# Altium footprint library Connectors.PcbLib: 67 footprints (part 4 of 5)
Each footprint in its own frame and in the unit in brackets; x right, y up, seen from the top. Pads: shape width x height; smd on the part's side, far side on the other; paste and mask are expansions set on the pad; w line width, h text height; cw(c..) or ccw(c..) is an arc to the next point about the centre after c.
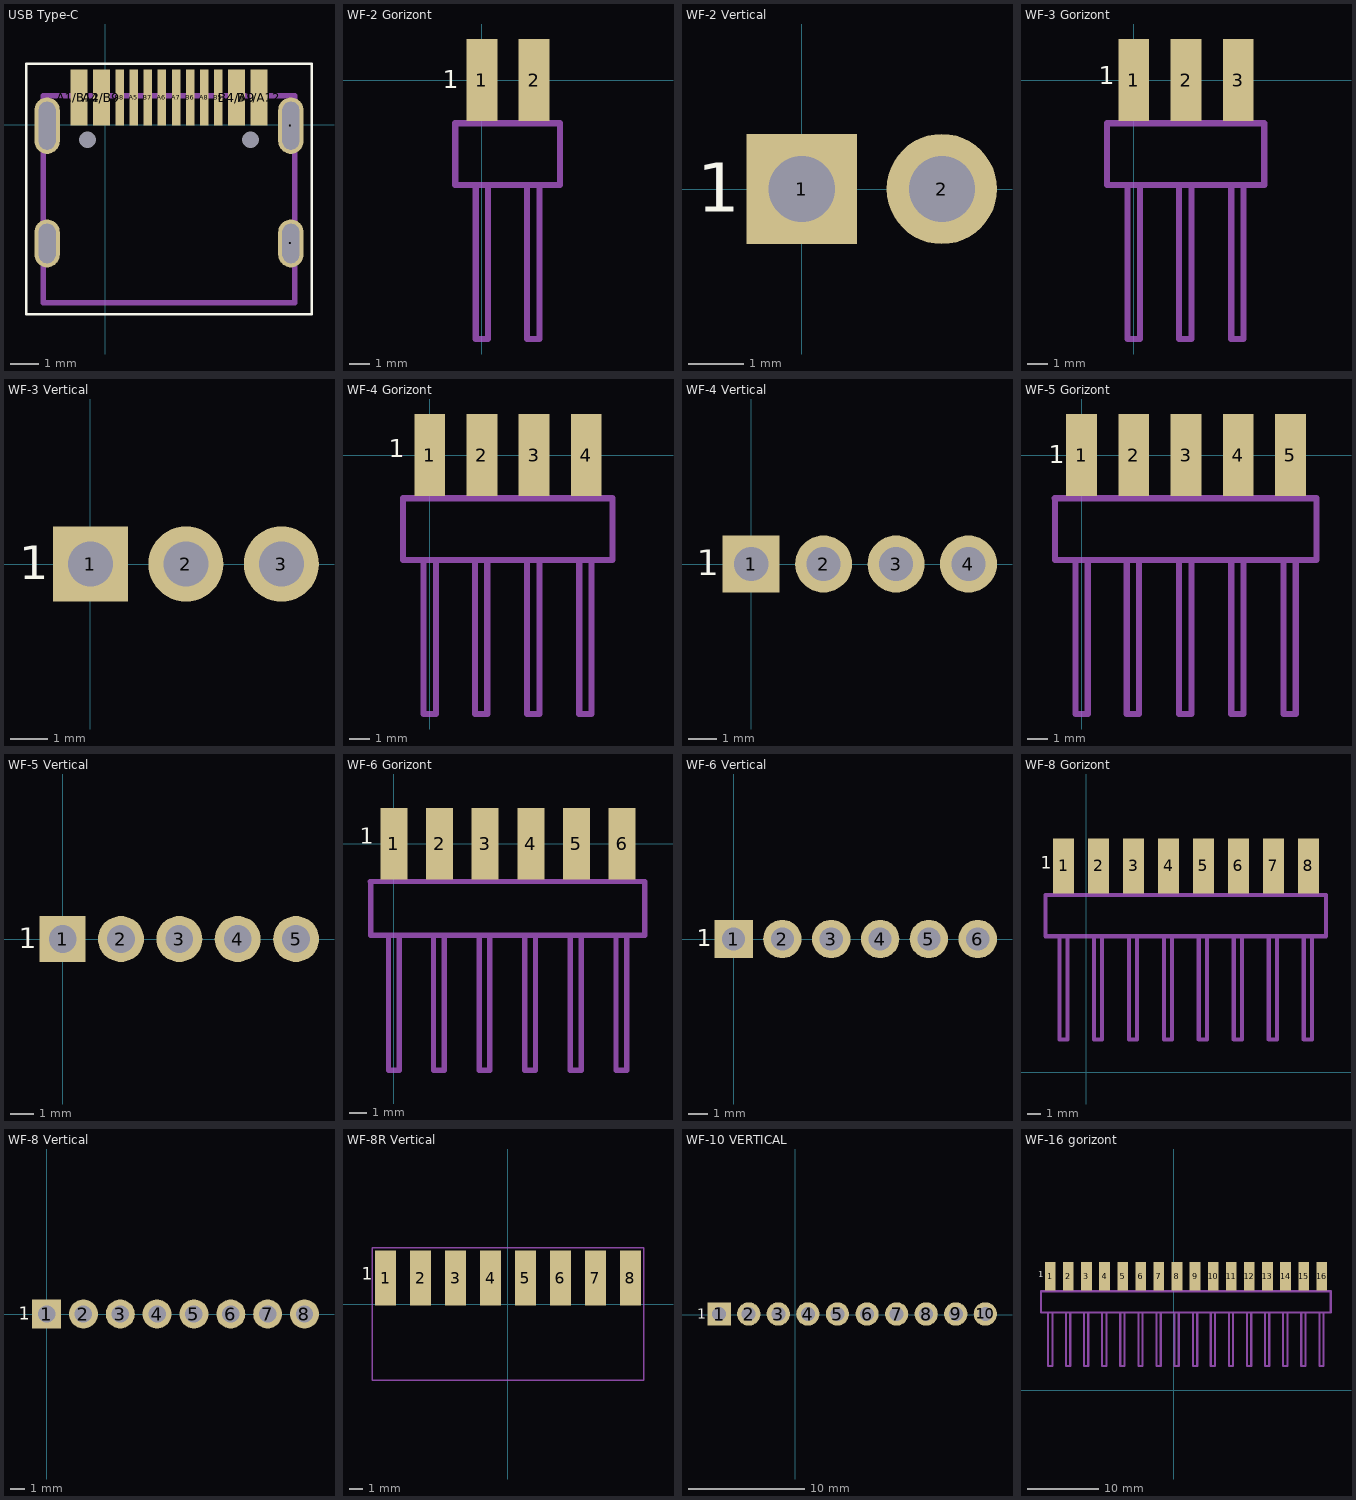
[diagram p3: the footprints below, top view; thin cyan lines are the x and y axes]

## USB Type-C [mm] "TYPE-C-31-M-12"
pads (18):
  round 0 hole 0.6 mask+0.102: 7(-0.635,-0.53) .(5.165,-0.53)
  oval 0.9x1.7 hole 0.6 slot 1.4 at 90 deg mask+0.102: .(6.59,-4.21) ""(-2.06,-4.21)
  oval 0.9x2 hole 0.6 slot 1.7 at 90 deg mask+0.102: .(6.59,-0.03) ""(-2.06,-0.03)
  rect 0.6x2 smd mask+0.102: A1/B12(-0.935,0.97) A4/B9(-0.135,0.97) B1/A12(5.465,0.97) B4/A9(4.665,0.97)
  rect 0.3x2 smd mask+0.102: A5(1.015,0.97) A6(2.015,0.97) A7(2.515,0.97) A8(3.515,0.97) B5(4.015,0.97) B6(3.015,0.97) B7(1.515,0.97) B8(0.515,0.97)
Top Overlay:
  lines w0.1: -2.805,-6.725 7.33,-6.725 7.33,2.17 -2.805,2.17 -2.805,-6.725
Mechanical 15:
  lines w0.1: -2.205,-6.32 -2.205,-6.31
  lines w0.2: -2.205,-6.32 6.735,-6.32 6.735,1.03 -2.205,1.03 -2.205,-6.31
3D body: height 3.26, standoff 0, extent -2.215,-6.32 6.735,1.03

## WF-2 Gorizont [mm]
pads (2):
  rect 1.5x4 smd: 1(0,0) 2(2.54,0)
Top Overlay:
  text "1" at -1.9,-0.7 h1.52
Mechanical 15:
  lines w0.3: -1.308,-2.1 3.8,-2.1 3.8,-5.1 -1.3,-5.1 -1.3,-2.1 ; -0.3,-5.1 -0.3,-12.6 0.3,-12.6 0.3,-5.1 ; -0.3,-2.1 -0.3,1.3 0.3,1.3 0.3,-2.1 ; 2.2,-5.1 2.2,-12.6 2.8,-12.6 2.8,-5.1 ; 2.2,-2.1 2.2,1.3 2.8,1.3 2.8,-2.1
3D body: height -1.7, standoff -2.7, extent -0.4,-12.6 2.8,-4.8
3D body: height 0.6, standoff 0, extent 2.2,-12.6 2.8,1.3
3D body: height 0.6, standoff 0, extent -0.3,-12.6 0.3,1.3
3D body: height 3.2, standoff -2.7, extent -1.3,-5.1 3.8,-2.1

## WF-2 Vertical [mm]
pads (2):
  rect 2x2 hole 1.2: 1(0,0)
  round 2 hole 1.2: 2(2.54,0)
Top Overlay:
  text "1" at -1.9,-0.7 h1.52
3D body: height 3, standoff 0, extent -1.35,-2.9 3.75,2.9
3D body: height 10.4, standoff -3.4, extent -0.3,-0.3 0.3,0.3
3D body: height 11.5, standoff 0, extent -1.4,-2.9 3.8,-2.1
3D body: height 10.4, standoff -3.4, extent 2.2,-0.3 2.8,0.3

## WF-3 Gorizont [mm]
pads (3):
  rect 1.5x4 smd: 1(0,0) 2(2.54,0) 3(5.08,0)
Top Overlay:
  text "1" at -1.7,-0.5 h1.52
Mechanical 15:
  lines w0.3: -1.308,-2.1 6.35,-2.1 6.35,-5.1 -1.3,-5.1 -1.3,-2.1 ; -0.3,-5.1 -0.3,-12.6 0.3,-12.6 0.3,-5.1 ; -0.3,-2.1 -0.3,1.3 0.3,1.3 0.3,-2.1 ; 2.2,-5.1 2.2,-12.6 2.8,-12.6 2.8,-5.1 ; 2.2,-2.1 2.2,1.3 2.8,1.3 2.8,-2.1 ; 4.74,-5.1 4.74,-12.6 5.34,-12.6 5.34,-5.1 ; 4.74,-2.1 4.74,1.3 5.34,1.3 5.34,-2.1
3D body: height -1.7, standoff -2.7, extent -0.4,-12.6 5.4,-4.8
3D body: height 0.6, standoff 0, extent 2.2,-12.6 2.8,1.3
3D body: height 0.6, standoff 0, extent -0.3,-12.6 0.3,1.3
3D body: height 3.2, standoff -2.7, extent -1.3,-5.1 6.35,-2.1
3D body: height 0.6, standoff 0, extent 4.78,-12.63 5.38,1.27

## WF-3 Vertical [mm]
pads (3):
  rect 2x2 hole 1.2: 1(0,0)
  round 2 hole 1.2: 2(2.54,0) 3(5.08,0)
Top Overlay:
  text "1" at -1.9,-0.7 h1.52
3D body: height 10.4, standoff -3.4, extent 2.2,-0.3 2.8,0.3
3D body: height 11.5, standoff 0, extent -1.27,-2.9 6.35,-2.1
3D body: height 10.4, standoff -3.4, extent -0.3,-0.3 0.3,0.3
3D body: height 3, standoff 0, extent -1.27,-2.9 6.35,2.9
3D body: height 10.4, standoff -3.4, extent 4.78,-0.3 5.38,0.3

## WF-4 Gorizont [mm]
pads (4):
  rect 1.5x4 smd: 1(0,0) 2(2.54,0) 3(5.08,0) 4(7.62,0)
Top Overlay:
  text "1" at -2,-0.4 h1.52
Mechanical 15:
  lines w0.3: -1.308,-2.1 8.89,-2.1 8.89,-5.1 -1.3,-5.1 -1.3,-2.1 ; -0.3,-5.1 -0.3,-12.6 0.3,-12.6 0.3,-5.1 ; -0.3,-2.1 -0.3,1.3 0.3,1.3 0.3,-2.1 ; 2.2,-5.1 2.2,-12.6 2.8,-12.6 2.8,-5.1 ; 2.2,-2.1 2.2,1.3 2.8,1.3 2.8,-2.1 ; 4.74,-5.1 4.74,-12.6 5.34,-12.6 5.34,-5.1 ; 4.74,-2.1 4.74,1.3 5.34,1.3 5.34,-2.1 ; 7.28,-5.1 7.28,-12.6 7.88,-12.6 7.88,-5.1 ; 7.28,-2.1 7.28,1.3 7.88,1.3 7.88,-2.1
3D body: height 0.6, standoff 0, extent 7.28,-12.6 7.88,1.3
3D body: height 0.6, standoff 0, extent 4.74,-12.6 5.34,1.3
3D body: height -1.7, standoff -2.7, extent -0.4,-12.6 7.9,-4.8
3D body: height 0.6, standoff 0, extent 2.2,-12.6 2.8,1.3
3D body: height 0.6, standoff 0, extent -0.3,-12.6 0.3,1.3
3D body: height 3.2, standoff -2.7, extent -1.3,-5.1 8.89,-2.1

## WF-4 Vertical [mm]
pads (4):
  rect 2x2 hole 1.2: 1(0,0)
  round 2 hole 1.2: 2(2.54,0) 3(5.08,0) 4(7.62,0)
Top Overlay:
  text "1" at -1.9,-0.7 h1.52
3D body: height 10.4, standoff -3.4, extent 2.2,-0.3 2.8,0.3
3D body: height 11.5, standoff 0, extent -1.27,-2.9 8.89,-2.1
3D body: height 10.4, standoff -3.4, extent -0.3,-0.3 0.3,0.3
3D body: height 3, standoff 0, extent -1.27,-2.9 8.89,2.9
3D body: height 10.4, standoff -3.4, extent 4.78,-0.3 5.38,0.3
3D body: height 10.4, standoff -3.4, extent 7.32,-0.3 7.92,0.3

## WF-5 Gorizont [mm]
pads (5):
  rect 1.5x4 smd: 1(0,0) 2(2.54,0) 3(5.08,0) 4(7.62,0) 5(10.16,0)
Top Overlay:
  text "1" at -1.6,-0.7 h1.52
Mechanical 15:
  lines w0.3: -1.308,-2.1 11.43,-2.1 11.43,-5.1 -1.3,-5.1 -1.3,-2.1 ; -0.3,-5.1 -0.3,-12.6 0.3,-12.6 0.3,-5.1 ; -0.3,-2.1 -0.3,1.3 0.3,1.3 0.3,-2.1 ; 2.2,-5.1 2.2,-12.6 2.8,-12.6 2.8,-5.1 ; 2.2,-2.1 2.2,1.3 2.8,1.3 2.8,-2.1 ; 4.74,-5.1 4.74,-12.6 5.34,-12.6 5.34,-5.1 ; 4.74,-2.1 4.74,1.3 5.34,1.3 5.34,-2.1 ; 7.28,-5.1 7.28,-12.6 7.88,-12.6 7.88,-5.1 ; 7.28,-2.1 7.28,1.3 7.88,1.3 7.88,-2.1 ; 9.82,-5.1 9.82,-12.6 10.42,-12.6 10.42,-5.1 ; 9.82,-2.1 9.82,1.3 10.42,1.3 10.42,-2.1
3D body: height 0.6, standoff 0, extent 9.82,-12.6 10.42,1.3
3D body: height 0.6, standoff 0, extent 7.28,-12.6 7.88,1.3
3D body: height 0.6, standoff 0, extent 4.74,-12.6 5.34,1.3
3D body: height -1.7, standoff -2.7, extent -0.4,-12.6 10.4,-4.8
3D body: height 0.6, standoff 0, extent 2.2,-12.6 2.8,1.3
3D body: height 0.6, standoff 0, extent -0.3,-12.6 0.3,1.3
3D body: height 3.2, standoff -2.7, extent -1.3,-5.1 11.43,-2.1

## WF-5 Vertical [mm]
pads (5):
  rect 2x2 hole 1.2: 1(0,0)
  round 2 hole 1.2: 2(2.54,0) 3(5.08,0) 4(7.62,0) 5(10.16,0)
Top Overlay:
  text "1" at -1.9,-0.7 h1.52
3D body: height 10.4, standoff -3.4, extent 9.86,-0.3 10.46,0.3
3D body: height 10.4, standoff -3.4, extent 7.32,-0.3 7.92,0.3
3D body: height 10.4, standoff -3.4, extent 4.78,-0.6 5.38,0
3D body: height 3, standoff 0, extent -1.27,-2.9 11.43,2.9
3D body: height 10.4, standoff -3.4, extent -0.3,-0.3 0.3,0.3
3D body: height 11.5, standoff 0, extent -1.27,-2.9 11.43,-2.1
3D body: height 10.4, standoff -3.4, extent 2.2,-0.3 2.8,0.3

## WF-6 Gorizont [mm]
pads (6):
  rect 1.5x4 smd: 1(0,0) 2(2.54,0) 3(5.08,0) 4(7.62,0) 5(10.16,0) 6(12.7,0)
Top Overlay:
  text "1" at -1.9,-0.3 h1.52
Mechanical 15:
  lines w0.3: -1.308,-2.1 13.97,-2.1 13.97,-5.1 -1.3,-5.1 -1.3,-2.1 ; -0.3,-5.1 -0.3,-12.6 0.3,-12.6 0.3,-5.1 ; -0.3,-2.1 -0.3,1.3 0.3,1.3 0.3,-2.1 ; 2.2,-5.1 2.2,-12.6 2.8,-12.6 2.8,-5.1 ; 2.2,-2.1 2.2,1.3 2.8,1.3 2.8,-2.1 ; 4.74,-5.1 4.74,-12.6 5.34,-12.6 5.34,-5.1 ; 4.74,-2.1 4.74,1.3 5.34,1.3 5.34,-2.1 ; 7.28,-5.1 7.28,-12.6 7.88,-12.6 7.88,-5.1 ; 7.28,-2.1 7.28,1.3 7.88,1.3 7.88,-2.1 ; 9.82,-5.1 9.82,-12.6 10.42,-12.6 10.42,-5.1 ; 9.82,-2.1 9.82,1.3 10.42,1.3 10.42,-2.1 ; 12.36,-5.1 12.36,-12.6 12.96,-12.6 12.96,-5.1 ; 12.36,-2.1 12.36,1.3 12.96,1.3 12.96,-2.1
3D body: height 3.2, standoff -2.7, extent -1.3,-5.1 13.97,-2.1
3D body: height 0.6, standoff 0, extent -0.3,-12.6 0.3,1.3
3D body: height 0.6, standoff 0, extent 2.2,-12.6 2.8,1.3
3D body: height -1.7, standoff -2.7, extent -0.4,-12.6 13,-4.8
3D body: height 0.6, standoff 0, extent 4.74,-12.6 5.34,1.3
3D body: height 0.6, standoff 0, extent 7.28,-12.6 7.88,1.3
3D body: height 0.6, standoff 0, extent 9.82,-12.6 10.42,1.3
3D body: height 0.6, standoff 0, extent 12.36,-12.6 12.96,1.3

## WF-6 Vertical [mm]
pads (6):
  rect 2x2 hole 1.2: 1(0,0)
  round 2 hole 1.2: 2(2.54,0) 3(5.08,0) 4(7.62,0) 5(10.16,0) 6(12.7,0)
Top Overlay:
  text "1" at -1.9,-0.7 h1.52
3D body: height 10.4, standoff -3.4, extent 12.4,-0.3 13,0.3
3D body: height 10.4, standoff -3.4, extent 9.86,-0.3 10.46,0.3
3D body: height 10.4, standoff -3.4, extent 7.32,-0.3 7.92,0.3
3D body: height 10.4, standoff -3.4, extent 4.78,-0.3 5.38,0.3
3D body: height 10.4, standoff -3.4, extent 2.2,-0.3 2.8,0.3
3D body: height 11.5, standoff 0, extent -1.27,-2.9 13.97,-2.1
3D body: height 10.4, standoff -3.4, extent -0.3,-0.3 0.3,0.3
3D body: height 3, standoff 0, extent -1.27,-2.9 13.97,2.9

## WF-8 Gorizont [mm]
pads (8):
  rect 1.5x4 smd: 1(-1.66,14.96) 2(0.88,14.96) 3(3.42,14.96) 4(5.96,14.96) 5(8.5,14.96) 6(11.04,14.96) 7(13.58,14.96) 8(16.12,14.96)
Top Overlay:
  text "1" at -3.31,14.48 h1.52
Mechanical 15:
  lines w0.3: -2.968,12.86 17.39,12.86 17.39,9.86 -2.96,9.86 -2.96,12.86 ; -1.96,9.86 -1.96,2.36 -1.36,2.36 -1.36,9.86 ; -1.96,12.86 -1.96,16.26 -1.36,16.26 -1.36,12.86 ; 0.54,9.86 0.54,2.36 1.14,2.36 1.14,9.86 ; 0.54,12.86 0.54,16.26 1.14,16.26 1.14,12.86 ; 3.08,9.86 3.08,2.36 3.68,2.36 3.68,9.86 ; 3.08,12.86 3.08,16.26 3.68,16.26 3.68,12.86 ; 5.62,9.86 5.62,2.36 6.22,2.36 6.22,9.86 ; 5.62,12.86 5.62,16.26 6.22,16.26 6.22,12.86 ; 8.16,9.86 8.16,2.36 8.76,2.36 8.76,9.86 ; 8.16,12.86 8.16,16.26 8.76,16.26 8.76,12.86 ; 10.7,9.86 10.7,2.36 11.3,2.36 11.3,9.86 ; 10.7,12.86 10.7,16.26 11.3,16.26 11.3,12.86 ; 13.24,9.86 13.24,2.36 13.84,2.36 13.84,9.86 ; 13.24,12.86 13.24,16.26 13.84,16.26 13.84,12.86 ; 15.78,9.86 15.78,2.36 16.38,2.36 16.38,9.86 ; 15.79,12.86 15.79,16.26 16.39,16.26 16.39,12.86
3D body: height 0.6, standoff 0, extent 15.78,2.36 16.38,16.26
3D body: height 0.6, standoff 0, extent 10.7,2.36 11.3,16.26
3D body: height 0.6, standoff 0, extent 8.16,2.36 8.76,16.26
3D body: height 0.6, standoff 0, extent 5.62,2.36 6.22,16.26
3D body: height 0.6, standoff 0, extent 3.08,2.36 3.68,16.26
3D body: height -1.7, standoff -2.7, extent -2.06,2.36 16.4,10.16
3D body: height 0.6, standoff 0, extent 0.54,2.36 1.14,16.26
3D body: height 0.6, standoff 0, extent -1.96,2.36 -1.36,16.26
3D body: height 3.2, standoff -2.7, extent -2.96,9.86 17.39,12.86
3D body: height 0.6, standoff 0, extent 13.24,2.36 13.84,16.26

## WF-8 Vertical [mm]
pads (8):
  rect 2x2 hole 1.2: 1(0,0)
  round 2 hole 1.2: 2(2.54,0) 3(5.08,0) 4(7.62,0) 5(10.16,0) 6(12.7,0) 7(15.24,0) 8(17.78,0)
Top Overlay:
  text "1" at -1.9,-0.7 h1.52
3D body: height 10.4, standoff -3.4, extent 17.48,-0.3 18.08,0.3
3D body: height 10.4, standoff -3.4, extent 14.94,-0.3 15.54,0.3
3D body: height 10.4, standoff -3.4, extent 12.4,-0.3 13,0.3
3D body: height 10.4, standoff -3.4, extent 9.86,-0.3 10.46,0.3
3D body: height 10.4, standoff -3.4, extent 7.32,-0.3 7.92,0.3
3D body: height 10.4, standoff -3.4, extent 4.78,-0.3 5.38,0.3
3D body: height 10.4, standoff -3.4, extent 2.2,-0.3 2.8,0.3
3D body: height 11.5, standoff 0, extent -1.27,-2.9 19.05,-2.1
3D body: height 10.4, standoff -3.4, extent -0.3,-0.3 0.3,0.3
3D body: height 3, standoff 0, extent -1.27,-2.9 19.05,2.9

## WF-8R Vertical [mm]
pads (8):
  rect 1.5x4 smd: 1(-8.878,1.884) 2(-6.338,1.884) 3(-3.798,1.884) 4(-1.258,1.884) 5(1.282,1.884) 6(3.823,1.884) 7(6.362,1.884) 8(8.902,1.884)
Top Overlay:
  text "1" at -10.61,1.46 h1.52
Mechanical 15:
  lines w0.1: -9.83,-5.52 9.86,-5.52 9.86,4.08 -9.83,4.08 -9.83,-5.52

## WF-10 VERTICAL [mm]
pads (10):
  rect 2x2 hole 1.2: 1(-6.55,0.07)
  round 2 hole 1.2: 2(-4.01,0.07) 3(-1.47,0.07) 4(1.07,0.07) 5(3.61,0.07) 6(6.15,0.07) 7(8.69,0.07) 8(11.23,0.07) 9(13.771,0.07) 10(16.31,0.07)
Top Overlay:
  text "1" at -8.45,-0.63 h1.52
3D body: height 3, standoff 0, extent -7.82,-2.83 17.58,2.97
3D body: height 10.4, standoff -3.4, extent -6.85,-0.23 -6.25,0.37
3D body: height 11.5, standoff 0, extent -7.82,-2.83 17.58,-2.03
3D body: height 10.4, standoff -3.4, extent -4.35,-0.23 -3.75,0.37
3D body: height 10.4, standoff -3.4, extent -1.77,-0.23 -1.17,0.37
3D body: height 10.4, standoff -3.4, extent 0.77,-0.23 1.37,0.37
3D body: height 10.4, standoff -3.4, extent 3.31,-0.23 3.91,0.37
3D body: height 10.4, standoff -3.4, extent 5.85,-0.23 6.45,0.37
3D body: height 10.4, standoff -3.4, extent 8.39,-0.23 8.99,0.37
3D body: height 10.4, standoff -3.4, extent 10.93,-0.23 11.53,0.37

## WF-16 gorizont [mm]
pads (16):
  rect 1.5x4 smd: 1(-17.364,16.023) 2(-14.824,16.023) 3(-12.284,16.023) 4(-9.744,16.023) 5(-7.204,16.023) 6(-4.664,16.023) 7(-2.124,16.023) 8(0.416,16.023) 9(2.956,16.023) 10(5.496,16.023) 11(8.036,16.023) 12(10.576,16.023) 13(13.116,16.023) 14(15.656,16.023) 15(18.196,16.023) 16(20.736,16.023)
Top Overlay:
  text "1" at -19.014,15.543 h1.52
Mechanical 15:
  lines w0.3: -18.672,13.923 1.686,13.923 ; -18.664,13.923 -18.664,10.923 1.686,10.923 ; -17.664,10.923 -17.664,3.423 -17.064,3.423 -17.064,10.923 ; -17.664,13.923 -17.664,17.323 -17.064,17.323 -17.064,13.923 ; -15.164,10.923 -15.164,3.423 -14.564,3.423 -14.564,10.923 ; -15.164,13.923 -15.164,17.323 -14.564,17.323 -14.564,13.923 ; -12.624,10.923 -12.624,3.423 -12.024,3.423 -12.024,10.923 ; -12.624,13.923 -12.624,17.323 -12.024,17.323 -12.024,13.923 ; -10.084,10.923 -10.084,3.423 -9.484,3.423 -9.484,10.923 ; -10.084,13.923 -10.084,17.323 -9.484,17.323 -9.484,13.923 ; -7.544,10.923 -7.544,3.423 -6.944,3.423 -6.944,10.923 ; -7.544,13.923 -7.544,17.323 -6.944,17.323 -6.944,13.923 ; -5.004,10.923 -5.004,3.423 -4.404,3.423 -4.404,10.923 ; -5.004,13.923 -5.004,17.323 -4.404,17.323 -4.404,13.923 ; -2.464,10.923 -2.464,3.423 -1.864,3.423 -1.864,10.923 ; -2.464,13.923 -2.464,17.323 -1.864,17.323 -1.864,13.923 ; 0.076,10.923 0.076,3.423 0.676,3.423 0.676,10.923 ; 0.086,13.923 0.086,17.323 0.686,17.323 0.686,13.923 ; 1.648,13.923 22.006,13.923 22.006,10.923 1.656,10.923 ; 2.656,10.923 2.656,3.423 3.256,3.423 3.256,10.923 ; 2.656,13.923 2.656,17.323 3.256,17.323 3.256,13.923 ; 5.156,10.923 5.156,3.423 5.756,3.423 5.756,10.923 ; 5.156,13.923 5.156,17.323 5.756,17.323 5.756,13.923 ; 7.696,10.923 7.696,3.423 8.296,3.423 8.296,10.923 ; 7.696,13.923 7.696,17.323 8.296,17.323 8.296,13.923 ; 10.236,10.923 10.236,3.423 10.836,3.423 10.836,10.923 ; 10.236,13.923 10.236,17.323 10.836,17.323 10.836,13.923 ; 12.776,10.923 12.776,3.423 13.376,3.423 13.376,10.923 ; 12.776,13.923 12.776,17.323 13.376,17.323 13.376,13.923 ; 15.316,10.923 15.316,3.423 15.916,3.423 15.916,10.923 ; 15.316,13.923 15.316,17.323 15.916,17.323 15.916,13.923 ; 17.856,10.923 17.856,3.423 18.456,3.423 18.456,10.923 ; 17.856,13.923 17.856,17.323 18.456,17.323 18.456,13.923 ; 20.396,10.923 20.396,3.423 20.996,3.423 20.996,10.923 ; 20.406,13.923 20.406,17.323 21.006,17.323 21.006,13.923
3D body: height 0.6, standoff 0, extent 20.396,3.423 20.996,17.323
3D body: height 0.6, standoff 0, extent 15.316,3.423 15.916,17.323
3D body: height 0.6, standoff 0, extent 12.776,3.423 13.376,17.323
3D body: height 0.6, standoff 0, extent 10.236,3.423 10.836,17.323
3D body: height 0.6, standoff 0, extent 7.696,3.423 8.296,17.323
3D body: height 0.6, standoff 0, extent 5.156,3.423 5.756,17.323
3D body: height 0.6, standoff 0, extent 2.656,3.423 3.256,17.323
3D body: height 0.6, standoff 0, extent 17.856,3.423 18.456,17.323
3D body: height 0.6, standoff 0, extent 0.076,3.423 0.676,17.323
3D body: height 0.6, standoff 0, extent -5.004,3.423 -4.404,17.323
3D body: height 0.6, standoff 0, extent -7.544,3.423 -6.944,17.323
3D body: height 0.6, standoff 0, extent -10.084,3.423 -9.484,17.323
3D body: height 0.6, standoff 0, extent -12.624,3.423 -12.024,17.323
3D body: height -1.7, standoff -2.7, extent -17.764,3.423 21.01,11.223
3D body: height 0.6, standoff 0, extent -15.164,3.423 -14.564,17.323
3D body: height 0.6, standoff 0, extent -17.664,3.423 -17.064,17.323
3D body: height 3.2, standoff -2.7, extent -18.664,10.923 21.98,13.923
3D body: height 0.6, standoff 0, extent -2.464,3.423 -1.864,17.323